# Altium schematic symbol library LEDs-RGB.SchLib: 3 symbols
Pins are listed as number, name and electrical type; pins without a type are passive.

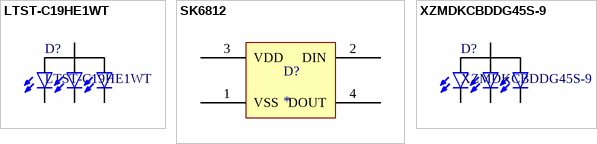
[diagram p0: symbols LTST-C19HE1WT to XZMDKCBDDG45S-9]

## LTST-C19HE1WT
designator D?
Manufacturer: Lite-On Inc.; PartNumber: LTST-C19HE1WT; PackageReference: 0606; Mounting Technology: Surface Mount; PackageDescription: 0606 (1616 Metric)
footprint LED0606 (LED, RGB (common anode), 0606 chip package)
pins: 1 K_Red, 2 K_Green, 3 K_Blue, 4 A

## SK6812
designator D?
smart control circuit and a light emitting circuit in one of the controlled LED source
footprint SK6812
pins: 1 VSS, 2 DIN, 3 VDD, 4 DOUT

## XZMDKCBDDG45S-9
designator D?
Manufacturer: SunLED; PartNumber: XZMDKCBDDG45S-9; PackageReference: 4-PLCC; Mounting Technology: Surface Mount; PackageDescription: 4-SMD, Gull Wing,  3.20mm L x 2.80mm W
footprint XZMDKCBDDG45S-9
pins: 1 K_Red, 2 A, 3 K_Blue, 4 K_Green